# Altium footprint library E07-900MM10S.PcbLib: 1 footprints
Each footprint in its own frame and in the unit in brackets; x right, y up, seen from the top. Pads: shape width x height; smd on the part's side, far side on the other; paste and mask are expansions set on the pad; w line width, h text height; cw(c..) or ccw(c..) is an arc to the next point about the centre after c.
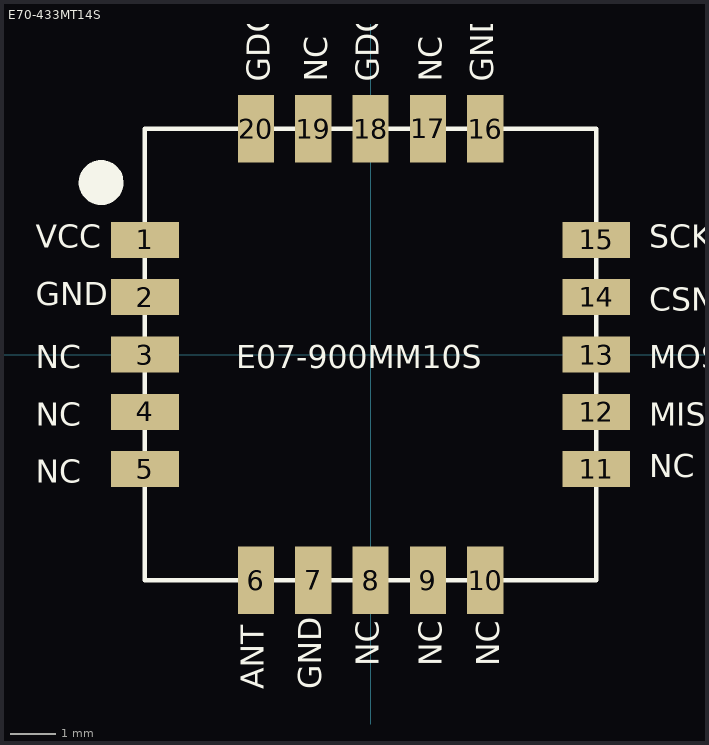
[diagram p0: the footprint, top view; thin cyan lines are the x and y axes]

## E70-433MT14S [mm] "E70-433MT14S"
pads (20):
  rect 1.5x0.8 smd mask+0.102: 1(-5,2.54) 2(-5,1.27) 3(-5,0) 4(-5,-1.27) 5(-5,-2.54) 11(5,-2.54) 12(5,-1.27) 13(5,0) 14(5,1.27) 15(5,2.54)
  rect 0.8x1.5 smd mask+0.102: 6(-2.54,-5) 7(-1.27,-5) 8(0,-5) 9(1.27,-5) 10(2.54,-5) 16(2.54,5) 17(1.27,5) 18(0,5) 19(-1.27,5) 20(-2.54,5)
Top Overlay:
  lines w0.1: -5,-5 5,-5 5,5 -5,5 -5,-5
  lines w0.635: -5.808,3.89 ccw(c-5.969,3.81) -5.789,3.81
  text "GDO2" at -2.235,6.045 h0.51
  text "NC" at -0.965,6.045 h0.51
  text "GDO0" at 0.178,6.045 h0.51
  text "NC" at 1.575,6.045 h0.51
  text "GND" at 2.718,6.045 h0.51
  text "SCK" at 6.172,2.362 h0.51
  text "CSN" at 6.172,0.965 h0.51
  text "MOSI" at 6.172,-0.305 h0.51
  text "MISO/GD01" at 6.172,-1.575 h0.51
  text "NC" at 6.172,-2.718 h0.51
  text "NC" at 2.845,-6.909 h0.51
  text "NC" at 1.575,-6.909 h0.51
  text "NC" at 0.178,-6.909 h0.51
  text "GND" at -1.092,-7.417 h0.51
  text "ANT" at -2.362,-7.417 h0.51
  text "NC" at -7.417,-2.845 h0.51
  text "NC" at -7.417,-1.575 h0.51
  text "NC" at -7.417,-0.305 h0.51
  text "GND" at -7.417,1.092 h0.51
  text "VCC" at -7.417,2.362 h0.51
  text "E07-900MM10S" at -2.972,-0.305 h0.51